# Altium footprint library Enpirion.PcbLib: 1 footprints
Each footprint in its own frame and in the unit in brackets; x right, y up, seen from the top. Pads: shape width x height; smd on the part's side, far side on the other; paste and mask are expansions set on the pad; w line width, h text height; cw(c..) or ccw(c..) is an arc to the next point about the centre after c.
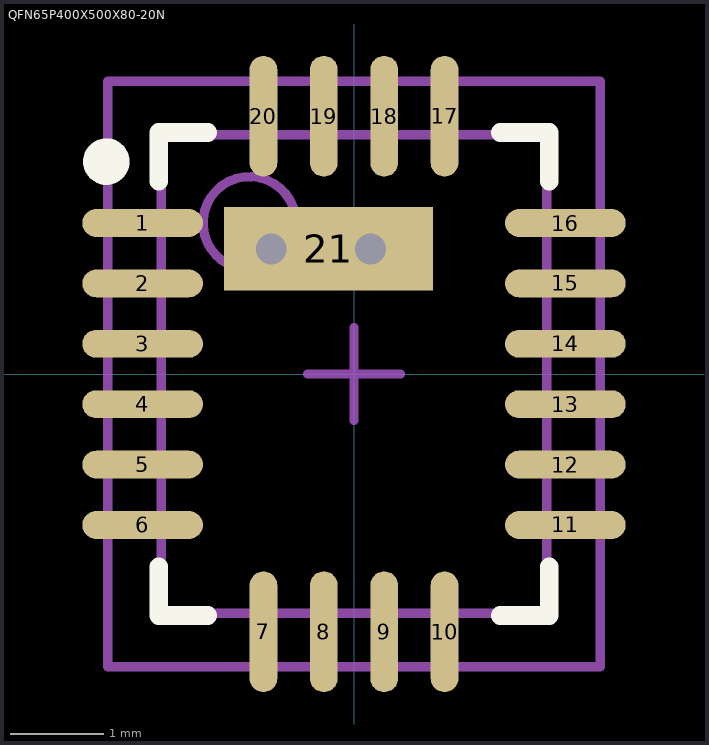
[diagram p0: the footprint, top view; thin cyan lines are the x and y axes]

## QFN65P400X500X80-20N [mm] "QFN, 20-Leads, Body 5.2x4.2mm (max), Pitch 0.65mm, IPC Medium Density"
height 0.8
pads (21):
  oval 1.3x0.3 smd: 1(-2.275,1.625) 2(-2.275,0.975) 3(-2.275,0.325) 4(-2.275,-0.325) 5(-2.275,-0.975) 6(-2.275,-1.625) 11(2.275,-1.625) 12(2.275,-0.975) 13(2.275,-0.325) 14(2.275,0.325) 15(2.275,0.975) 16(2.275,1.625)
  oval 0.3x1.3 smd: 7(-0.975,-2.775) 8(-0.325,-2.775) 9(0.325,-2.775) 10(0.975,-2.775) 17(0.975,2.775) 18(0.325,2.775) 19(-0.325,2.775) 20(-0.975,2.775)
  rect 2.25x0.9 smd paste-0.2: 21(-0.275,1.35)
via -0.889,1.346 diameter 0.66 hole 0.33
via 0.178,1.346 diameter 0.66 hole 0.33
Top Overlay:
  circle w0.25: c-2.665,2.286 r0.125
  lines w0.2: -2.1,-2.075 -2.1,-2.6 -1.575,-2.6 ; -2.1,2.075 -2.1,2.6 -1.575,2.6 ; 1.575,-2.6 2.1,-2.6 2.1,-2.075 ; 1.575,2.6 2.1,2.6 2.1,2.075
Mechanical 13:
  circle w0.1: c-1.125,1.625 r0.5
  lines w0.1: -2.075,-2.575 -2.075,2.575 2.075,2.575 2.075,-2.575 -2.075,-2.575
Mechanical 15:
  lines w0.1: -0.5,0 0.5,0 ; 0,-0.5 0,0.5 ; -2.65,-3.15 -2.65,3.15 2.65,3.15 2.65,-3.15 -2.65,-3.15
3D body: height 0.8, standoff 0.01, extent -2.075,-2.575 2.075,2.575